# EAGLE library part STM32F207V*T (library gost_stm32)
ARM 32-bit Cortex™-M3 CPU 120 MHz maximum frequency 256 to 1024 Kbytes of Flash memory 128 kbytes of SRAM 82 GPIOs 1.8 to 3.6 V application supply
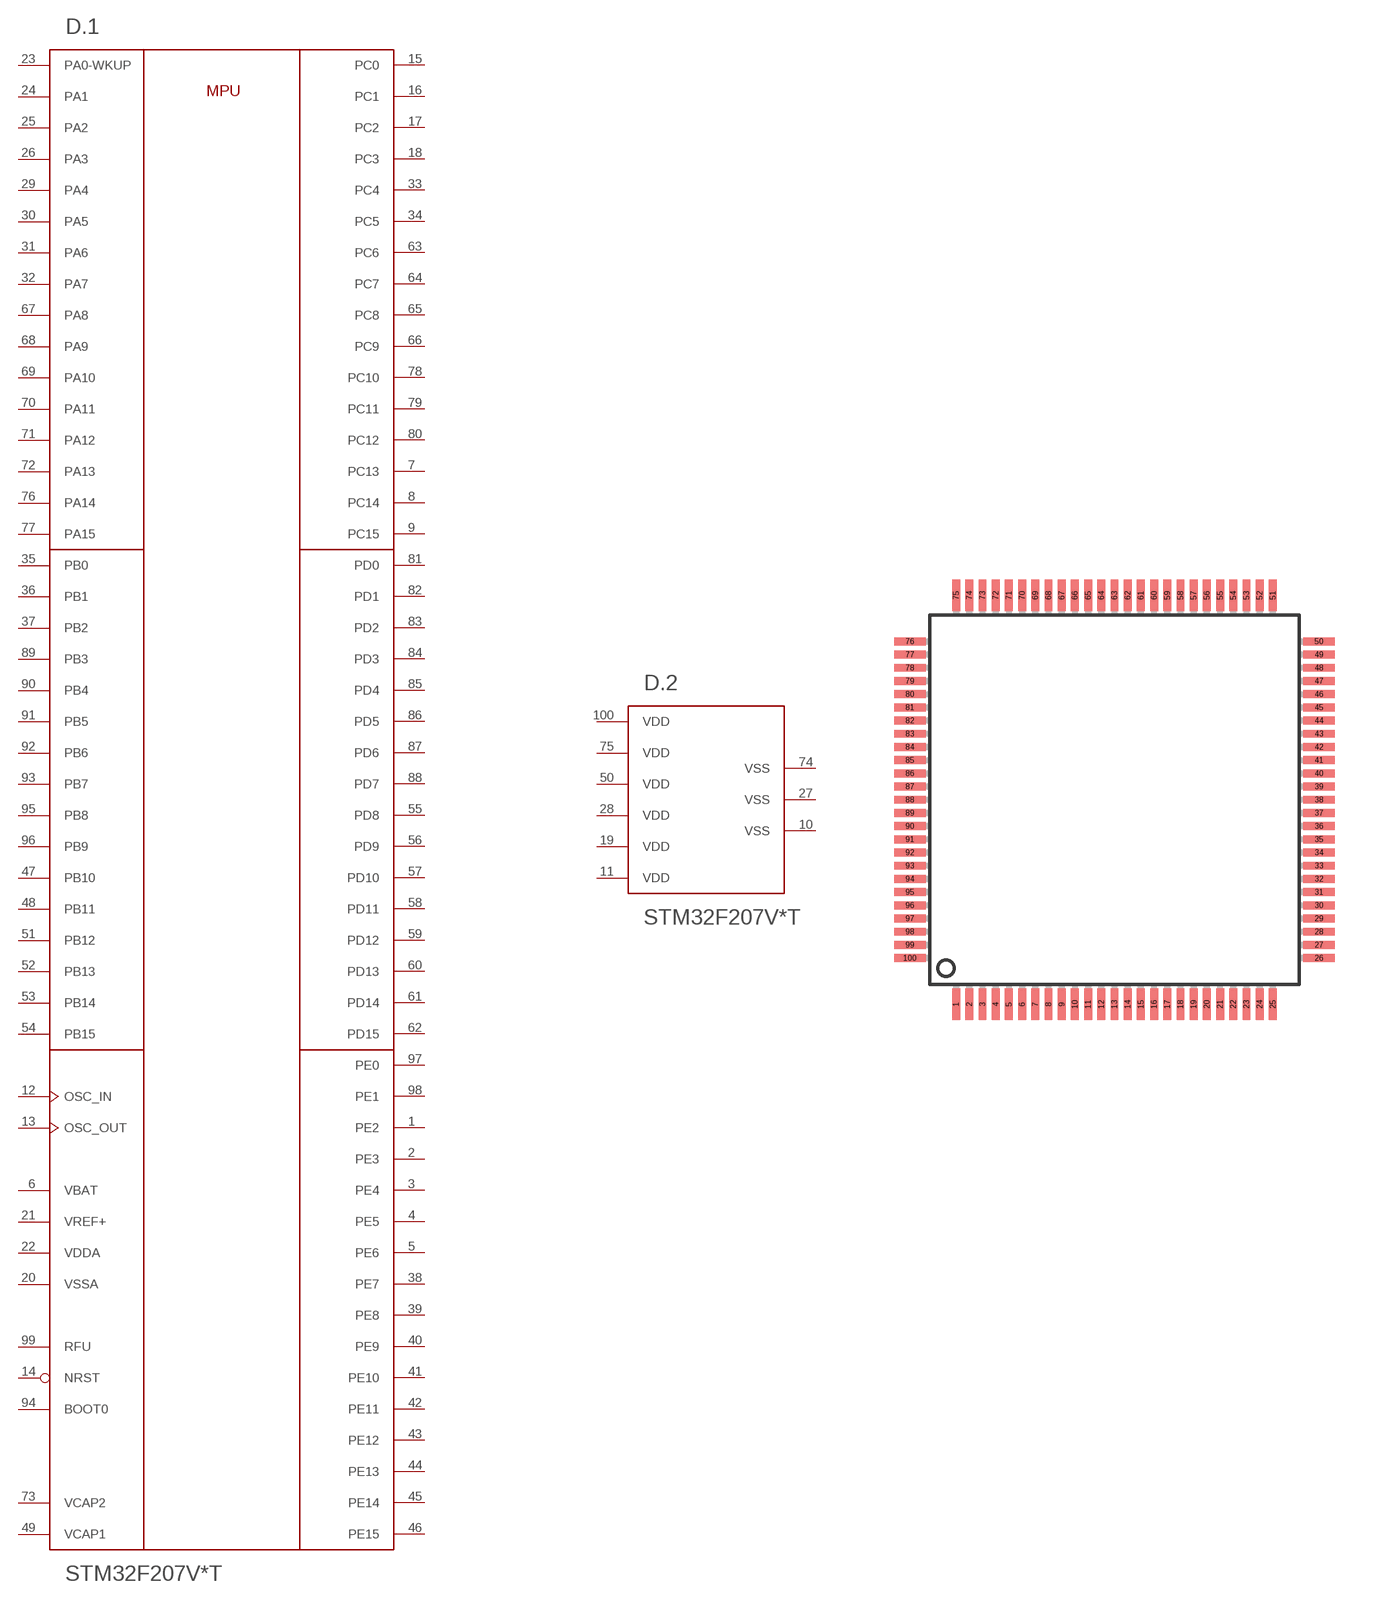
[diagram p0: symbol with the pads of LQFP100; footprint LQFP100]

Designator prefix D; gates .1=STM32F207_100PIN_TYP2 .2=PWR_VDD6_VSS3

## STM32F207VCT, STM32F207VET, STM32F207VFT, STM32F207VGT  [LQFP100]
1  .1:PE2
2  .1:PE3
3  .1:PE4
4  .1:PE5
5  .1:PE6
6  .1:VBAT  pwr
7  .1:PC13
8  .1:PC14
9  .1:PC15
10  .2:VSS  pwr
11  .2:VDD  pwr
12  .1:OSC_IN
13  .1:OSC_OUT
14  .1:NRST
15  .1:PC0
16  .1:PC1
17  .1:PC2
18  .1:PC3
19  .2:VDD  pwr
20  .1:VSSA  pwr
21  .1:VREF+  pwr
22  .1:VDDA  pwr
23  .1:PA0-WKUP
24  .1:PA1
25  .1:PA2
26  .1:PA3
27  .2:VSS  pwr
28  .2:VDD  pwr
29  .1:PA4
30  .1:PA5
31  .1:PA6
32  .1:PA7
33  .1:PC4
34  .1:PC5
35  .1:PB0
36  .1:PB1
37  .1:PB2
38  .1:PE7
39  .1:PE8
40  .1:PE9
41  .1:PE10
42  .1:PE11
43  .1:PE12
44  .1:PE13
45  .1:PE14
46  .1:PE15
47  .1:PB10
48  .1:PB11
49  .1:VCAP1  pwr
50  .2:VDD  pwr
51  .1:PB12
52  .1:PB13
53  .1:PB14
54  .1:PB15
55  .1:PD8
56  .1:PD9
57  .1:PD10
58  .1:PD11
59  .1:PD12
60  .1:PD13
61  .1:PD14
62  .1:PD15
63  .1:PC6
64  .1:PC7
65  .1:PC8
66  .1:PC9
67  .1:PA8
68  .1:PA9
69  .1:PA10
70  .1:PA11
71  .1:PA12
72  .1:PA13
73  .1:VCAP2  pwr
74  .2:VSS  pwr
75  .2:VDD  pwr
76  .1:PA14
77  .1:PA15
78  .1:PC10
79  .1:PC11
80  .1:PC12
81  .1:PD0
82  .1:PD1
83  .1:PD2
84  .1:PD3
85  .1:PD4
86  .1:PD5
87  .1:PD6
88  .1:PD7
89  .1:PB3
90  .1:PB4
91  .1:PB5
92  .1:PB6
93  .1:PB7
94  .1:BOOT0  in
95  .1:PB8
96  .1:PB9
97  .1:PE0
98  .1:PE1
99  .1:RFU  in
100  .2:VDD  pwr

## Footprint LQFP100 (pad centres in mm)
LQFP100 14 x 14 mm, 100-pin low-profile quad flat package
smd 0.3 x 1.2: 1 -6,-7.75; 2 -5.5,-7.75; 3 -5,-7.75; 4 -4.5,-7.75; 5 -4,-7.75; 6 -3.5,-7.75; 7 -3,-7.75; 8 -2.5,-7.75; 9 -2,-7.75; 10 -1.5,-7.75; 11 -1,-7.75; 12 -0.5,-7.75; 13 0,-7.75; 14 0.5,-7.75; 15 1,-7.75; 16 1.5,-7.75; 17 2,-7.75; 18 2.5,-7.75; 19 3,-7.75; 20 3.5,-7.75; 21 4,-7.75; 22 4.5,-7.75; 23 5,-7.75; 24 5.5,-7.75; 25 6,-7.75; 51 6,7.75; 52 5.5,7.75; 53 5,7.75; 54 4.5,7.75; 55 4,7.75; 56 3.5,7.75; 57 3,7.75; 58 2.5,7.75; 59 2,7.75; 60 1.5,7.75; 61 1,7.75; 62 0.5,7.75; 63 0,7.75; 64 -0.5,7.75; 65 -1,7.75; 66 -1.5,7.75; 67 -2,7.75; 68 -2.5,7.75; 69 -3,7.75; 70 -3.5,7.75; 71 -4,7.75; 72 -4.5,7.75; 73 -5,7.75; 74 -5.5,7.75; 75 -6,7.75
smd 1.2 x 0.3: 26 7.75,-6; 27 7.75,-5.5; 28 7.75,-5; 29 7.75,-4.5; 30 7.75,-4; 31 7.75,-3.5; 32 7.75,-3; 33 7.75,-2.5; 34 7.75,-2; 35 7.75,-1.5; 36 7.75,-1; 37 7.75,-0.5; 38 7.75,0; 39 7.75,0.5; 40 7.75,1; 41 7.75,1.5; 42 7.75,2; 43 7.75,2.5; 44 7.75,3; 45 7.75,3.5; 46 7.75,4; 47 7.75,4.5; 48 7.75,5; 49 7.75,5.5; 50 7.75,6; 76 -7.75,6; 77 -7.75,5.5; 78 -7.75,5; 79 -7.75,4.5; 80 -7.75,4; 81 -7.75,3.5; 82 -7.75,3; 83 -7.75,2.5; 84 -7.75,2; 85 -7.75,1.5; 86 -7.75,1; 87 -7.75,0.5; 88 -7.75,0; 89 -7.75,-0.5; 90 -7.75,-1; 91 -7.75,-1.5; 92 -7.75,-2; 93 -7.75,-2.5; 94 -7.75,-3; 95 -7.75,-3.5; 96 -7.75,-4; 97 -7.75,-4.5; 98 -7.75,-5; 99 -7.75,-5.5; 100 -7.75,-6